# Altium footprint library LM317M.PcbLib: 1 footprints
Each footprint in its own frame and in the unit in brackets; x right, y up, seen from the top. Pads: shape width x height; smd on the part's side, far side on the other; paste and mask are expansions set on the pad; w line width, h text height; cw(c..) or ccw(c..) is an arc to the next point about the centre after c.
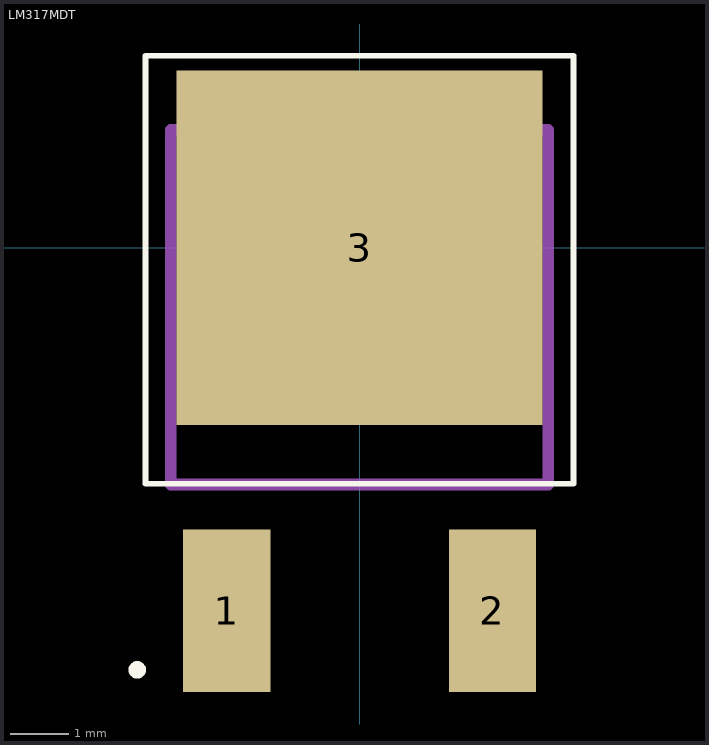
[diagram p0: the footprint, top view; thin cyan lines are the x and y axes]

## LM317MDT [mm]
pads (3):
  rect 1.5x2.8 smd: 1(-2.286,-6.25) 2(2.286,-6.25)
  rect 6.3x6.1 smd: 3(0,0)
Top Overlay:
  lines w0.1: -3.683,-4.064 -3.683,3.302 3.683,3.302 3.683,-4.064 ; -3.683,-4.064 3.683,-4.064 ; -3.683,-4.064 3.683,-4.064
  lines w0.2: -3.876,-7.266 ccw(c-3.826,-7.266) -3.776,-7.266 ; -3.876,-7.266 cw(c-3.826,-7.266) -3.776,-7.266 ; -3.876,-7.266 ccw(c-3.826,-7.266) -3.776,-7.266
Mechanical 13:
  lines w0.2: -3.25,-4.075 3.25,-4.075 3.25,2.025 -3.25,2.025 -3.25,-4.075
3D body "LM317MDTG.STEP": height 2.48, standoff -0.03, extent -3.25,-7.108 3.25,2.798